# Altium schematic symbol library Atmel_By_element14_Batch_1-00.SCHLIB: 346 symbols (part 5 of 5)
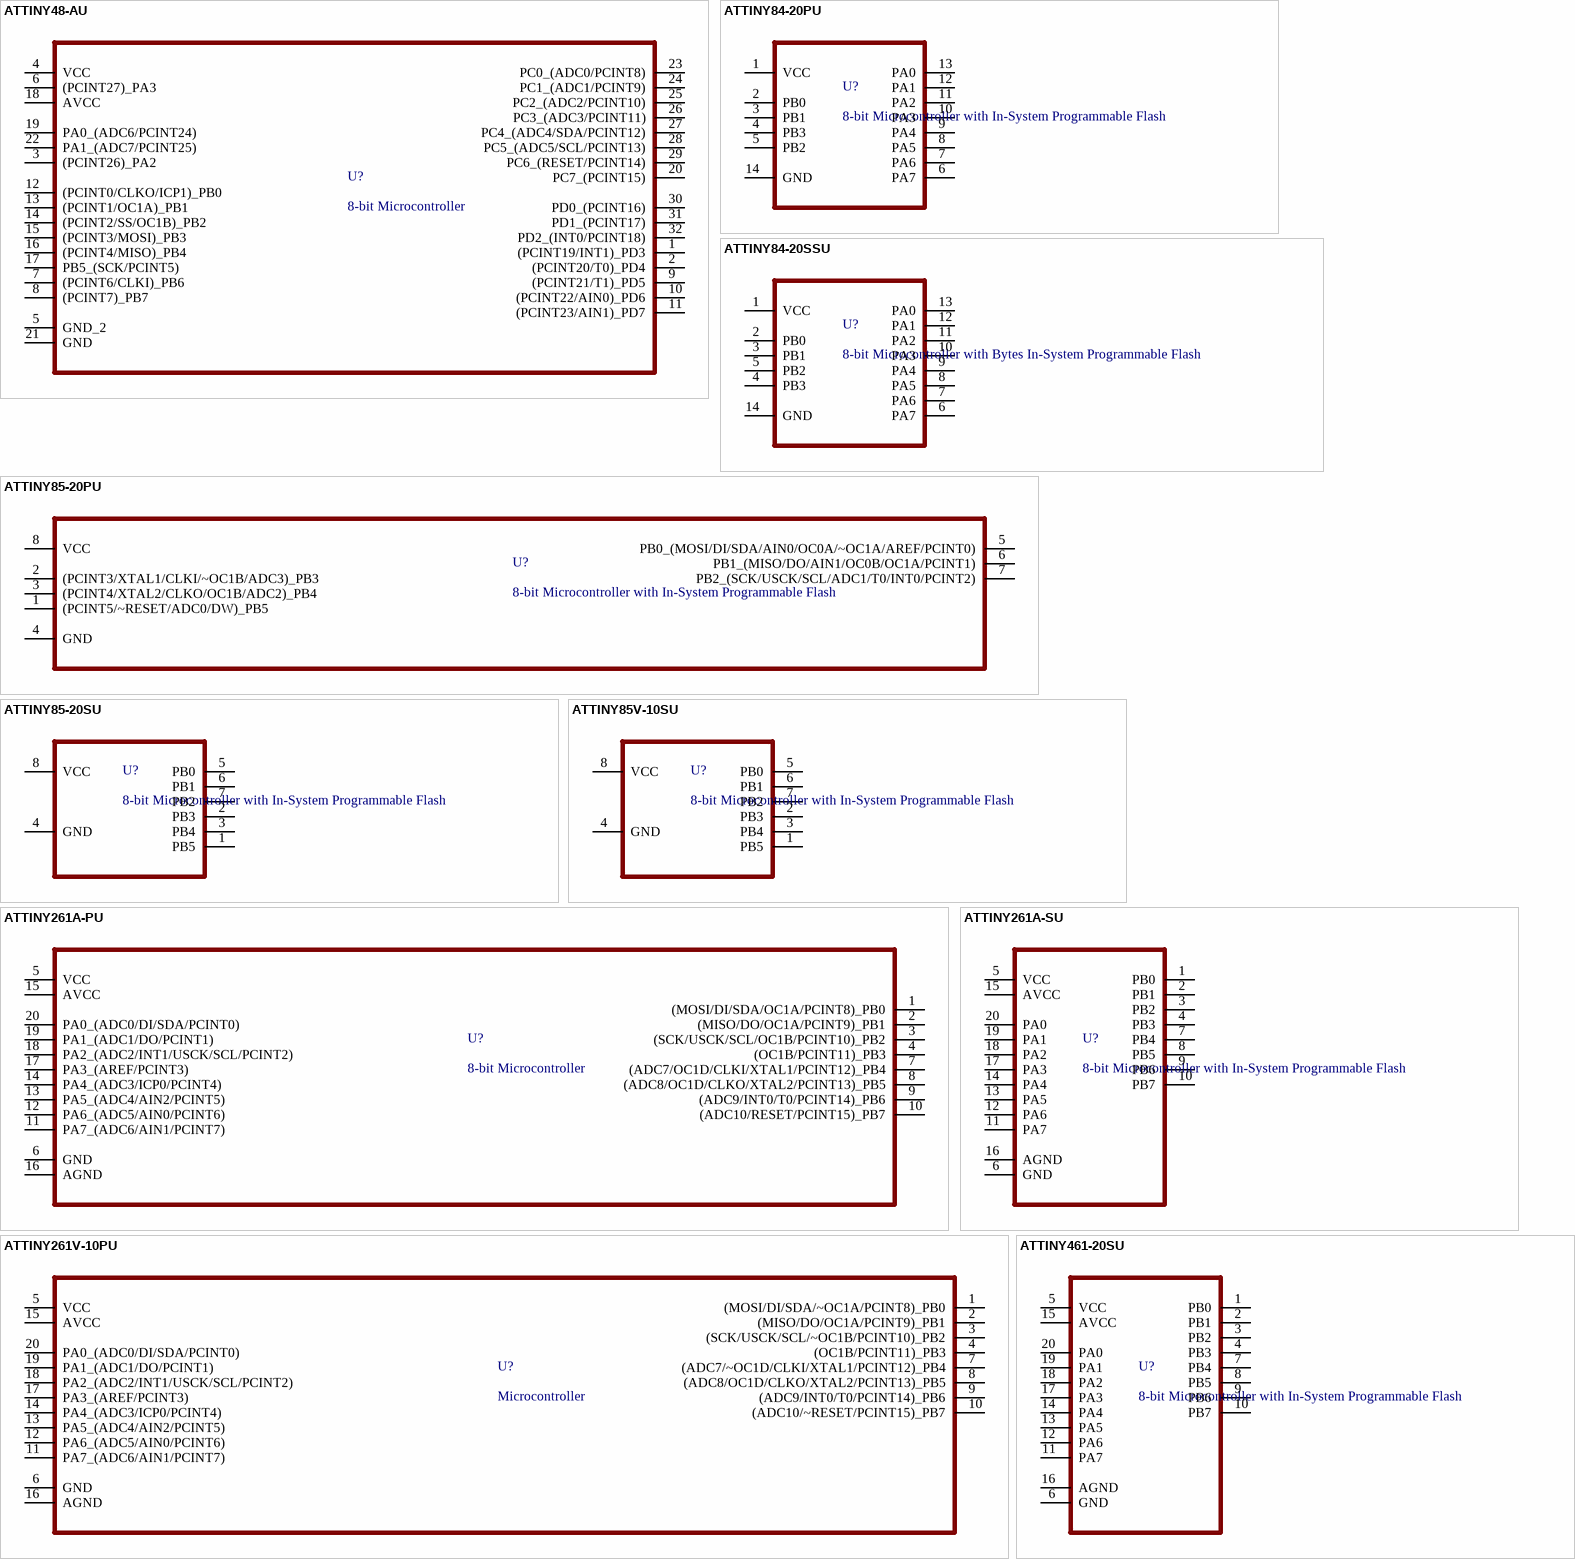
[diagram p50: symbols ATTINY48-AU to ATTINY461-20SU]

## ATTINY261A-SU
designator U?, comment 8-bit Microcontroller with In-System Programmable Flash
MPN: ATTINY261A-SU; OC_FARNELL: 1841619; OC_NEWARK: 12T1336; PACKAGE: SOIC-20; SUPPLIER: Atmel
footprint SOIC127P1032X265-20N
pins: 1 PB0, 2 PB1, 3 PB2, 4 PB3, 5 VCC (power), 6 GND, 7 PB4, 8 PB5, 9 PB6, 10 PB7, 11 PA7, 12 PA6, 13 PA5, 14 PA4, 15 AVCC (power), 16 AGND, 17 PA3, 18 PA2, 19 PA1, 20 PA0

## ATTINY261V-10PU
designator U?, comment Microcontroller
MPN: ATTINY261V-10PU; OC_FARNELL: 1455148; OC_NEWARK: 58M3784; PACKAGE: DIP-20; SUPPLIER: ATMEL
footprint DIP254P762X533-20
pins: 1 (MOSI/DI/SDA/~OC1A/PCINT8)_PB0, 2 (MISO/DO/OC1A/PCINT9)_PB1, 3 (SCK/USCK/SCL/~OC1B/PCINT10)_PB2, 4 (OC1B/PCINT11)_PB3, 5 VCC (power), 6 GND, 7 (ADC7/~OC1D/CLKI/XTAL1/PCINT12)_PB4, 8 (ADC8/OC1D/CLKO/XTAL2/PCINT13)_PB5, 9 (ADC9/INT0/T0/PCINT14)_PB6, 10 (ADC10/~RESET/PCINT15)_PB7, 11 PA7_(ADC6/AIN1/PCINT7), 12 PA6_(ADC5/AIN0/PCINT6), 13 PA5_(ADC4/AIN2/PCINT5), 14 PA4_(ADC3/ICP0/PCINT4), 15 AVCC (power), 16 AGND, 17 PA3_(AREF/PCINT3), 18 PA2_(ADC2/INT1/USCK/SCL/PCINT2), 19 PA1_(ADC1/DO/PCINT1), 20 PA0_(ADC0/DI/SDA/PCINT0)

## ATTINY461-20SU
designator U?, comment 8-bit Microcontroller with In-System Programmable Flash
MPN: ATTINY461-20SU; OC_FARNELL: 1455157; OC_NEWARK: 58M3791; PACKAGE: SOIC-20; SUPPLIER: Atmel
footprint SOIC127P1032X265-20N
pins: 1 PB0, 2 PB1, 3 PB2, 4 PB3, 5 VCC (power), 6 GND, 7 PB4, 8 PB5, 9 PB6, 10 PB7, 11 PA7, 12 PA6, 13 PA5, 14 PA4, 15 AVCC (power), 16 AGND, 17 PA3, 18 PA2, 19 PA1, 20 PA0

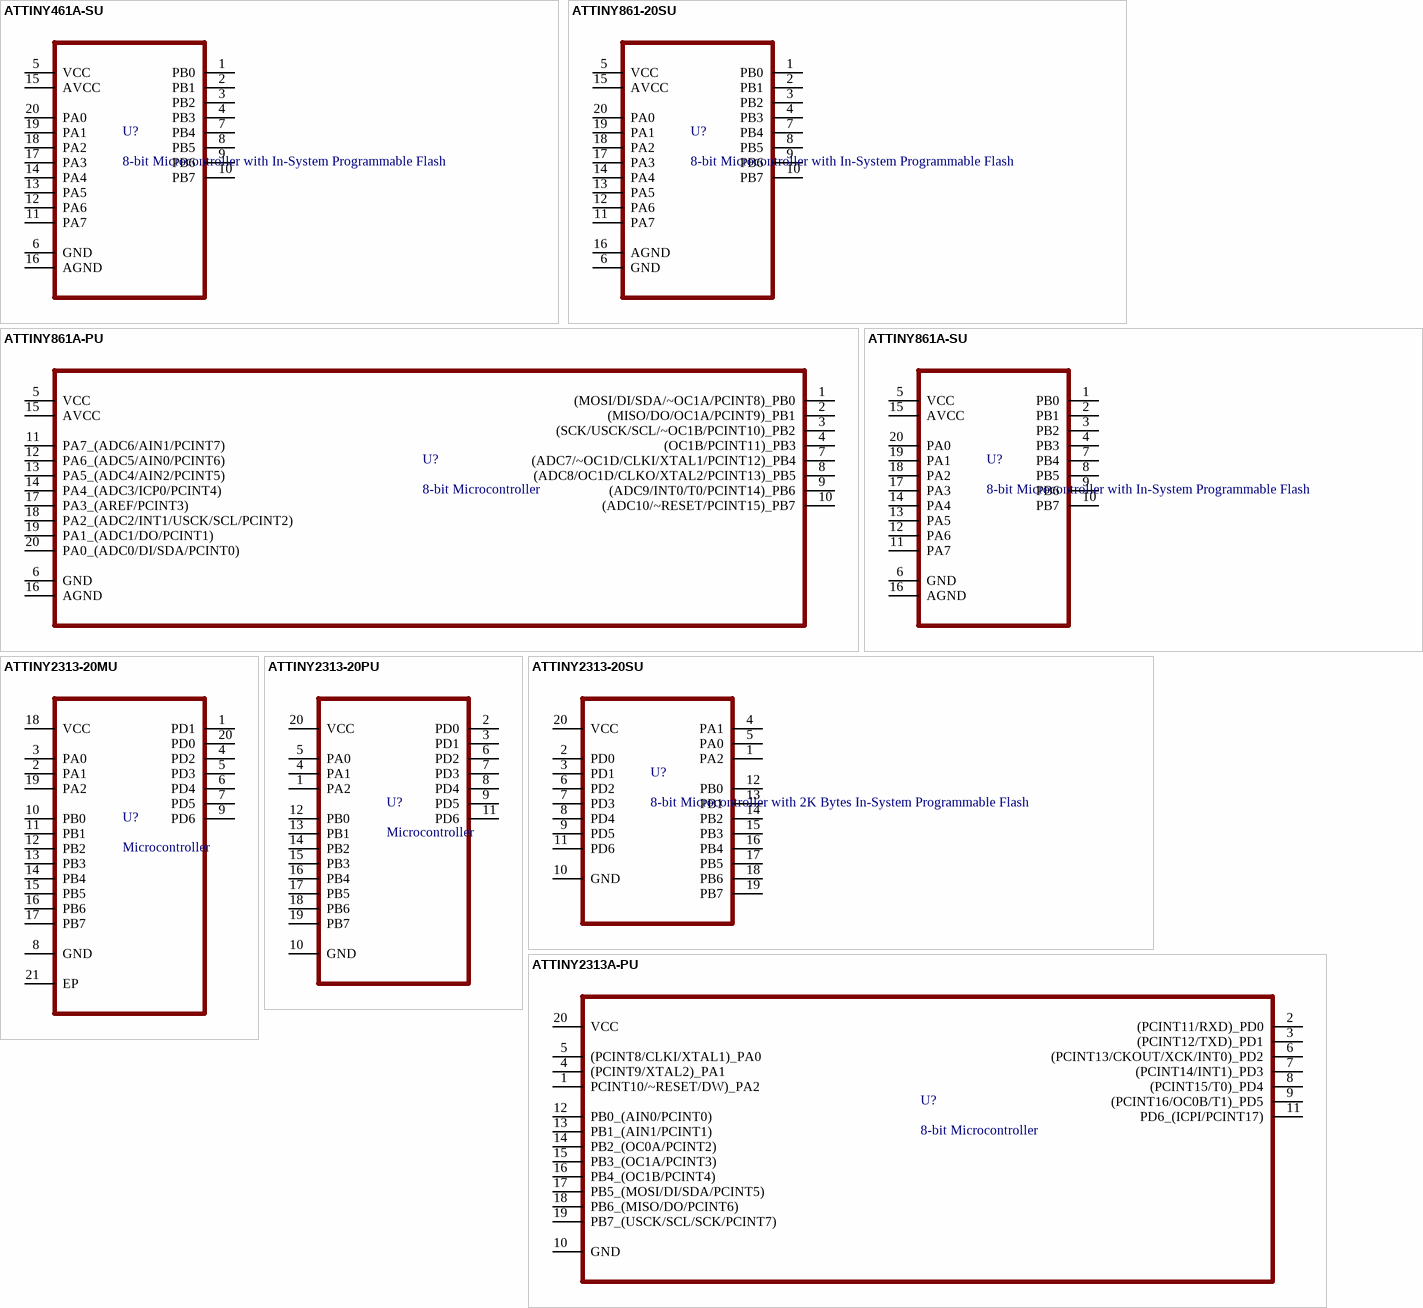
[diagram p44: symbols ATTINY461A-SU to ATTINY2313A-PU]

## ATTINY461A-SU
designator U?, comment 8-bit Microcontroller with In-System Programmable Flash
MPN: ATTINY461A-SU; OC_FARNELL: 1841624; OC_NEWARK: 12T1341; PACKAGE: SOIC-20; SUPPLIER: Atmel
footprint SOIC127P1032X265-20N
pins: 1 PB0, 2 PB1, 3 PB2, 4 PB3, 5 VCC (power), 6 GND, 7 PB4, 8 PB5, 9 PB6, 10 PB7, 11 PA7, 12 PA6, 13 PA5, 14 PA4, 15 AVCC (power), 16 AGND, 17 PA3, 18 PA2, 19 PA1, 20 PA0

## ATTINY861-20SU
designator U?, comment 8-bit Microcontroller with In-System Programmable Flash
MPN: ATTINY861-20SU; OC_FARNELL: 1455168; OC_NEWARK: 58M3801; PACKAGE: SOIC-20; SUPPLIER: Atmel
footprint SOIC127P1032X265-20N
pins: 1 PB0, 2 PB1, 3 PB2, 4 PB3, 5 VCC (power), 6 GND, 7 PB4, 8 PB5, 9 PB6, 10 PB7, 11 PA7, 12 PA6, 13 PA5, 14 PA4, 15 AVCC (power), 16 AGND, 17 PA3, 18 PA2, 19 PA1, 20 PA0

## ATTINY861A-PU
designator U?, comment 8-bit Microcontroller
MPN: ATTINY861A-PU; OC_FARNELL: 1841627; OC_NEWARK: 12T1343; PACKAGE: DIP-20; SUPPLIER: Atmel
footprint DIP254P762X533-20
pins: 1 (MOSI/DI/SDA/~OC1A/PCINT8)_PB0, 2 (MISO/DO/OC1A/PCINT9)_PB1, 3 (SCK/USCK/SCL/~OC1B/PCINT10)_PB2, 4 (OC1B/PCINT11)_PB3, 5 VCC (power), 6 GND, 7 (ADC7/~OC1D/CLKI/XTAL1/PCINT12)_PB4, 8 (ADC8/OC1D/CLKO/XTAL2/PCINT13)_PB5, 9 (ADC9/INT0/T0/PCINT14)_PB6, 10 (ADC10/~RESET/PCINT15)_PB7, 11 PA7_(ADC6/AIN1/PCINT7), 12 PA6_(ADC5/AIN0/PCINT6), 13 PA5_(ADC4/AIN2/PCINT5), 14 PA4_(ADC3/ICP0/PCINT4), 15 AVCC (power), 16 AGND, 17 PA3_(AREF/PCINT3), 18 PA2_(ADC2/INT1/USCK/SCL/PCINT2), 19 PA1_(ADC1/DO/PCINT1), 20 PA0_(ADC0/DI/SDA/PCINT0)

## ATTINY861A-SU
designator U?, comment 8-bit Microcontroller with In-System Programmable Flash
MPN: ATTINY861A-SU; OC_FARNELL: 1841628; OC_NEWARK: 12T1344; PACKAGE: SOIC-20; SUPPLIER: Atmel
footprint SOIC127P1032X265-20N
pins: 1 PB0, 2 PB1, 3 PB2, 4 PB3, 5 VCC (power), 6 GND, 7 PB4, 8 PB5, 9 PB6, 10 PB7, 11 PA7, 12 PA6, 13 PA5, 14 PA4, 15 AVCC (power), 16 AGND, 17 PA3, 18 PA2, 19 PA1, 20 PA0

## ATTINY2313-20MU
designator U?, comment Microcontroller
MPN: ATTINY2313-20MU; OC_FARNELL: 1748539; OC_NEWARK: 26R5646; PACKAGE: QFN-20; SUPPLIER: Atmel
footprint QFN50P400X400X80-21N
pins: 1 PD1, 2 PA1, 3 PA0, 4 PD2, 5 PD3, 6 PD4, 7 PD5, 8 GND, 9 PD6, 10 PB0, 11 PB1, 12 PB2, 13 PB3, 14 PB4, 15 PB5, 16 PB6, 17 PB7, 18 VCC (power), 19 PA2, 20 PD0, 21 EP

## ATTINY2313-20PU
designator U?, comment Microcontroller
MPN: ATTINY2313-20PU; OC_FARNELL: 9171592; OC_NEWARK: 96K6525; PACKAGE: DIP-20; SUPPLIER: ATMEL
footprint DIP254P762X533-20
pins: 1 PA2, 2 PD0, 3 PD1, 4 PA1, 5 PA0, 6 PD2, 7 PD3, 8 PD4, 9 PD5, 10 GND, 11 PD6, 12 PB0, 13 PB1, 14 PB2, 15 PB3, 16 PB4, 17 PB5, 18 PB6, 19 PB7, 20 VCC (power)

## ATTINY2313-20SU
designator U?, comment 8-bit Microcontroller with 2K Bytes In-System Programmable Flash
MPN: ATTINY2313-20SU; OC_FARNELL: 9171606; OC_NEWARK: 96K6526; PACKAGE: SOIC-20; SUPPLIER: Atmel
footprint SOIC127P1032X265-20N
pins: 1 PA2, 2 PD0, 3 PD1, 4 PA1, 5 PA0, 6 PD2, 7 PD3, 8 PD4, 9 PD5, 10 GND, 11 PD6, 12 PB0, 13 PB1, 14 PB2, 15 PB3, 16 PB4, 17 PB5, 18 PB6, 19 PB7, 20 VCC (power)

## ATTINY2313A-PU
designator U?, comment 8-bit Microcontroller
MPN: ATTINY2313A-PU; OC_FARNELL: 1841616; OC_NEWARK: 12T1333; PACKAGE: DIP-20; SUPPLIER: Atmel
footprint DIP254P762X533-20
pins: 1 PCINT10/~RESET/DW)_PA2, 2 (PCINT11/RXD)_PD0, 3 (PCINT12/TXD)_PD1, 4 (PCINT9/XTAL2)_PA1, 5 (PCINT8/CLKI/XTAL1)_PA0, 6 (PCINT13/CKOUT/XCK/INT0)_PD2, 7 (PCINT14/INT1)_PD3, 8 (PCINT15/T0)_PD4, 9 (PCINT16/OC0B/T1)_PD5, 10 GND, 11 PD6_(ICPI/PCINT17), 12 PB0_(AIN0/PCINT0), 13 PB1_(AIN1/PCINT1), 14 PB2_(OC0A/PCINT2), 15 PB3_(OC1A/PCINT3), 16 PB4_(OC1B/PCINT4), 17 PB5_(MOSI/DI/SDA/PCINT5), 18 PB6_(MISO/DO/PCINT6), 19 PB7_(USCK/SCL/SCK/PCINT7), 20 VCC (power)

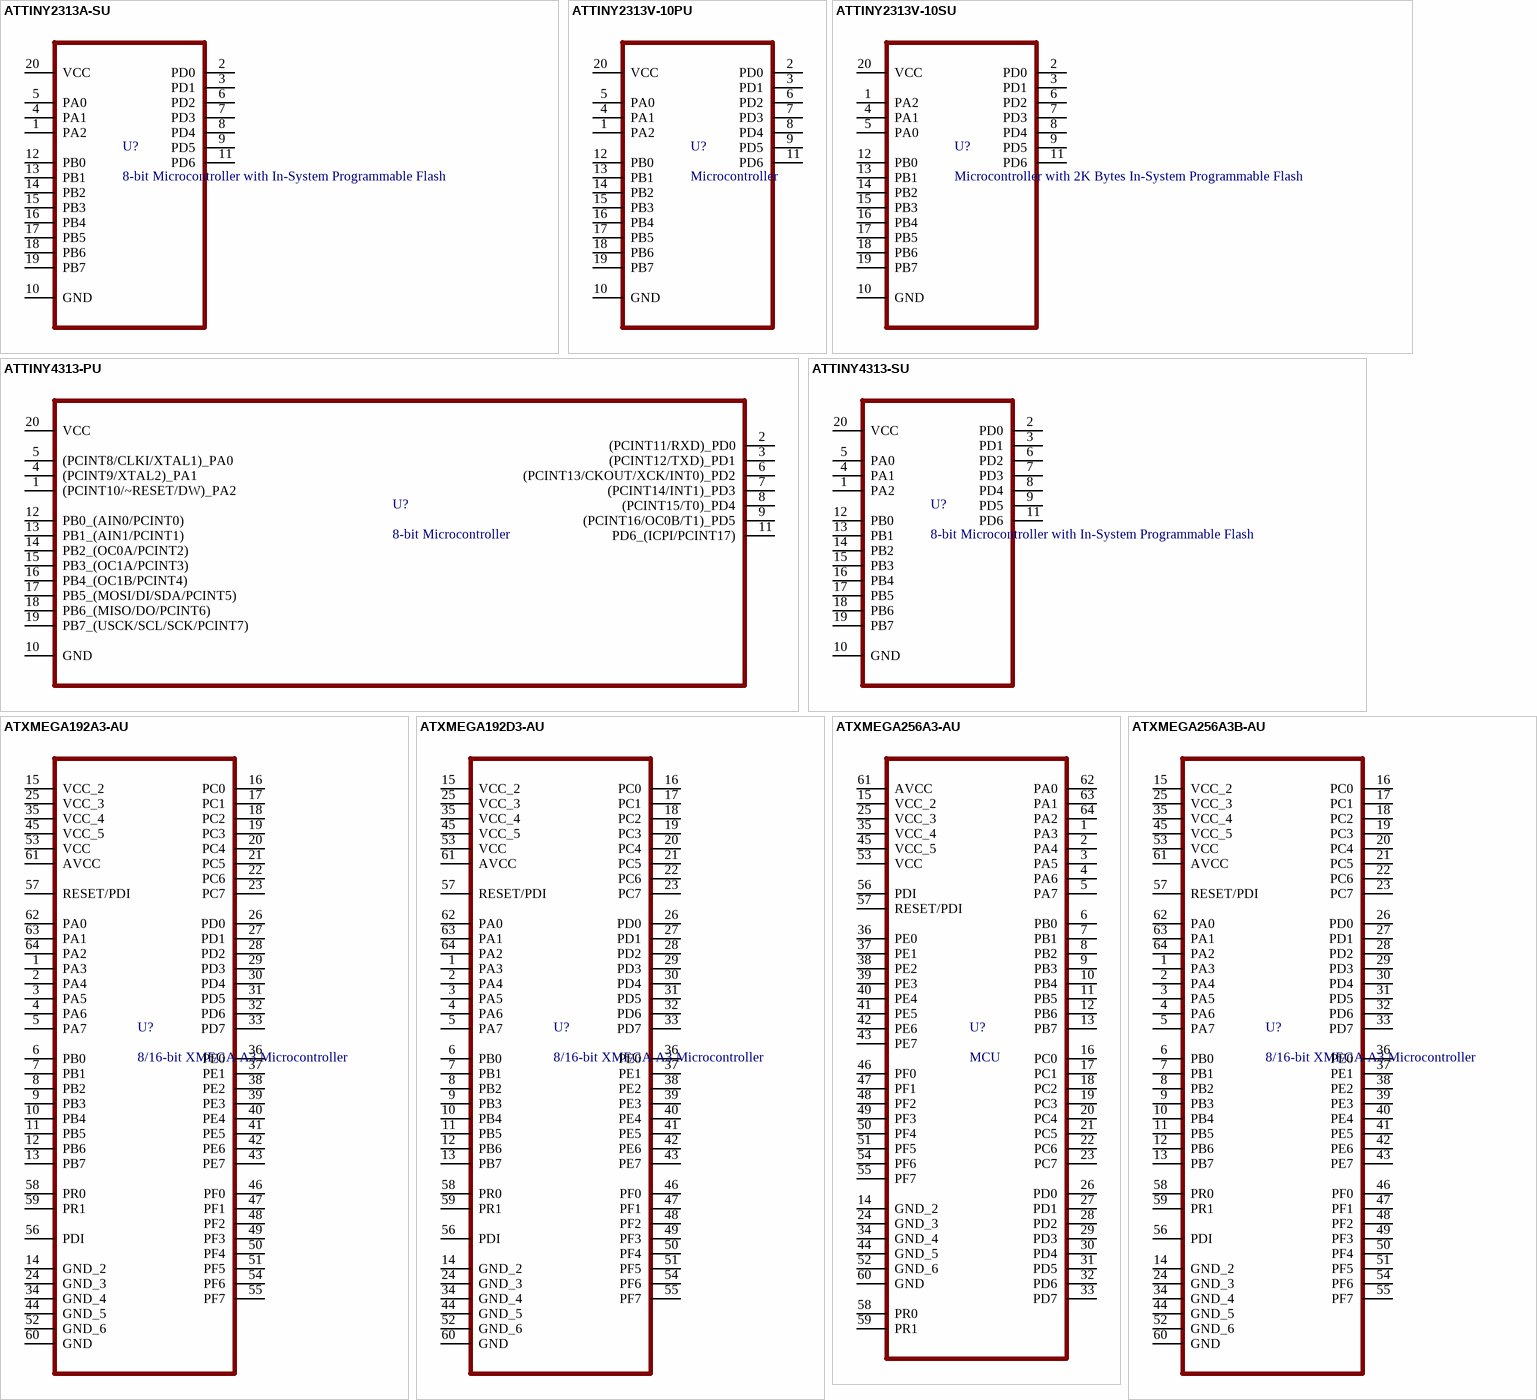
[diagram p45: symbols ATTINY2313A-SU to ATXMEGA256A3B-AU]

## ATTINY2313A-SU
designator U?, comment 8-bit Microcontroller with In-System Programmable Flash
MPN: ATTINY2313A-SU; OC_FARNELL: 1841617; OC_NEWARK: 12T1334; PACKAGE: SOIC-20; SUPPLIER: Atmel
footprint SOIC127P1032X265-20N
pins: 1 PA2, 2 PD0, 3 PD1, 4 PA1, 5 PA0, 6 PD2, 7 PD3, 8 PD4, 9 PD5, 10 GND, 11 PD6, 12 PB0, 13 PB1, 14 PB2, 15 PB3, 16 PB4, 17 PB5, 18 PB6, 19 PB7, 20 VCC (power)

## ATTINY2313V-10PU
designator U?, comment Microcontroller
MPN: ATTINY2313V-10PU; OC_FARNELL: 9171614; OC_NEWARK: 01M6916; PACKAGE: DIP-20; SUPPLIER: ATMEL
footprint DIP254P762X533-20
pins: 1 PA2, 2 PD0, 3 PD1, 4 PA1, 5 PA0, 6 PD2, 7 PD3, 8 PD4, 9 PD5, 10 GND, 11 PD6, 12 PB0, 13 PB1, 14 PB2, 15 PB3, 16 PB4, 17 PB5, 18 PB6, 19 PB7, 20 VCC (power)

## ATTINY2313V-10SU
designator U?, comment Microcontroller with 2K Bytes In-System Programmable Flash
MPN: ATTINY2313V-10SU; OC_FARNELL: 9171622; OC_NEWARK: 01M6917; PACKAGE: SOIC-16; SUPPLIER: Atmel
footprint SOIC127P1032X265-20N
pins: 1 PA2, 2 PD0, 3 PD1, 4 PA1, 5 PA0, 6 PD2, 7 PD3, 8 PD4, 9 PD5, 10 GND, 11 PD6, 12 PB0, 13 PB1, 14 PB2, 15 PB3, 16 PB4, 17 PB5, 18 PB6, 19 PB7, 20 VCC (power)

## ATTINY4313-PU
designator U?, comment 8-bit Microcontroller
MPN: ATTINY4313-PU; OC_FARNELL: 1841620; OC_NEWARK: 12T1339; PACKAGE: DIP-20; SUPPLIER: Atmel
footprint DIP254P762X533-20
pins: 1 (PCINT10/~RESET/DW)_PA2, 2 (PCINT11/RXD)_PD0, 3 (PCINT12/TXD)_PD1, 4 (PCINT9/XTAL2)_PA1, 5 (PCINT8/CLKI/XTAL1)_PA0, 6 (PCINT13/CKOUT/XCK/INT0)_PD2, 7 (PCINT14/INT1)_PD3, 8 (PCINT15/T0)_PD4, 9 (PCINT16/OC0B/T1)_PD5, 10 GND, 11 PD6_(ICPI/PCINT17), 12 PB0_(AIN0/PCINT0), 13 PB1_(AIN1/PCINT1), 14 PB2_(OC0A/PCINT2), 15 PB3_(OC1A/PCINT3) (power), 16 PB4_(OC1B/PCINT4), 17 PB5_(MOSI/DI/SDA/PCINT5), 18 PB6_(MISO/DO/PCINT6), 19 PB7_(USCK/SCL/SCK/PCINT7), 20 VCC (power)

## ATTINY4313-SU
designator U?, comment 8-bit Microcontroller with In-System Programmable Flash
MPN: ATTINY4313-SU; OC_FARNELL: 1841621; OC_NEWARK: 12T1340; PACKAGE: SOIC-20; SUPPLIER: Atmel
footprint SOIC127P1032X265-20N
pins: 1 PA2, 2 PD0, 3 PD1, 4 PA1, 5 PA0, 6 PD2, 7 PD3, 8 PD4, 9 PD5, 10 GND, 11 PD6, 12 PB0, 13 PB1, 14 PB2, 15 PB3, 16 PB4, 17 PB5, 18 PB6, 19 PB7, 20 VCC (power)

## ATXMEGA192A3-AU
designator U?, comment 8/16-bit XMEGA A3 Microcontroller
MPN: ATXMEGA192A3-AU; OC_FARNELL: 1841630; OC_NEWARK: -; PACKAGE: TQFP-64; SUPPLIER: Atmel Corporation
footprint QFP80P1600X1600X120-64N
pins: 1 PA3, 2 PA4, 3 PA5, 4 PA6, 5 PA7, 6 PB0, 7 PB1, 8 PB2, 9 PB3, 10 PB4, 11 PB5, 12 PB6, 13 PB7, 14 GND_2, 15 VCC_2 (power), 16 PC0, 17 PC1, 18 PC2, 19 PC3, 20 PC4, 21 PC5, 22 PC6, 23 PC7, 24 GND_3, 25 VCC_3 (power), 26 PD0, 27 PD1, 28 PD2, 29 PD3, 30 PD4, 31 PD5, 32 PD6, 33 PD7, 34 GND_4, 35 VCC_4 (power), 36 PE0, 37 PE1, 38 PE2, 39 PE3, 40 PE4, 41 PE5, 42 PE6, 43 PE7, 44 GND_5, 45 VCC_5 (power), 46 PF0, 47 PF1, 48 PF2, 49 PF3, 50 PF4, 51 PF5, 52 GND_6, 53 VCC (power), 54 PF6, 55 PF7, 56 PDI, 57 RESET/PDI, 58 PR0, 59 PR1, 60 GND, 61 AVCC (power), 62 PA0, 63 PA1, 64 PA2

## ATXMEGA192D3-AU
designator U?, comment 8/16-bit XMEGA A3 Microcontroller
MPN: ATXMEGA192D3-AU; OC_FARNELL: 1841631; OC_NEWARK: -; PACKAGE: TQFP-64; SUPPLIER: Atmel Corporation
footprint QFP80P1600X1600X120-64N
pins: 1 PA3, 2 PA4, 3 PA5, 4 PA6, 5 PA7, 6 PB0, 7 PB1, 8 PB2, 9 PB3, 10 PB4, 11 PB5, 12 PB6, 13 PB7, 14 GND_2, 15 VCC_2 (power), 16 PC0, 17 PC1, 18 PC2, 19 PC3, 20 PC4, 21 PC5, 22 PC6, 23 PC7, 24 GND_3, 25 VCC_3 (power), 26 PD0, 27 PD1, 28 PD2, 29 PD3, 30 PD4, 31 PD5, 32 PD6, 33 PD7, 34 GND_4, 35 VCC_4 (power), 36 PE0, 37 PE1, 38 PE2, 39 PE3, 40 PE4, 41 PE5, 42 PE6, 43 PE7, 44 GND_5, 45 VCC_5 (power), 46 PF0, 47 PF1, 48 PF2, 49 PF3, 50 PF4, 51 PF5, 52 GND_6, 53 VCC (power), 54 PF6, 55 PF7, 56 PDI, 57 RESET/PDI, 58 PR0, 59 PR1, 60 GND, 61 AVCC (power), 62 PA0, 63 PA1, 64 PA2

## ATXMEGA256A3-AU
designator U?, comment MCU
MPN: ATXMEGA256A3-AU; OC_FARNELL: 1748554; OC_NEWARK: -; PACKAGE: QFP-64; SUPPLIER: Atmel
footprint QFP80P1600X1600X120-64N
pins: 1 PA3, 2 PA4, 3 PA5, 4 PA6, 5 PA7, 6 PB0, 7 PB1, 8 PB2, 9 PB3, 10 PB4, 11 PB5, 12 PB6, 13 PB7, 14 GND_2, 15 VCC_2 (power), 16 PC0, 17 PC1, 18 PC2, 19 PC3, 20 PC4, 21 PC5, 22 PC6, 23 PC7, 24 GND_3, 25 VCC_3 (power), 26 PD0, 27 PD1, 28 PD2, 29 PD3, 30 PD4, 31 PD5, 32 PD6, 33 PD7, 34 GND_4, 35 VCC_4 (power), 36 PE0, 37 PE1, 38 PE2, 39 PE3, 40 PE4, 41 PE5, 42 PE6, 43 PE7, 44 GND_5, 45 VCC_5 (power), 46 PF0, 47 PF1, 48 PF2, 49 PF3, 50 PF4, 51 PF5, 52 GND_6, 53 VCC (power), 54 PF6, 55 PF7, 56 PDI, 57 RESET/PDI, 58 PR0, 59 PR1, 60 GND, 61 AVCC (power), 62 PA0, 63 PA1, 64 PA2

## ATXMEGA256A3B-AU
designator U?, comment 8/16-bit XMEGA A3 Microcontroller
MPN: ATXMEGA256A3B-AU; OC_FARNELL: 1841632; OC_NEWARK: -; PACKAGE: TQFP-64; SUPPLIER: Atmel Corporation
footprint QFP80P1600X1600X120-64N
pins: 1 PA3, 2 PA4, 3 PA5, 4 PA6, 5 PA7, 6 PB0, 7 PB1, 8 PB2, 9 PB3, 10 PB4, 11 PB5, 12 PB6, 13 PB7, 14 GND_2, 15 VCC_2 (power), 16 PC0, 17 PC1, 18 PC2, 19 PC3, 20 PC4, 21 PC5, 22 PC6, 23 PC7, 24 GND_3, 25 VCC_3 (power), 26 PD0, 27 PD1, 28 PD2, 29 PD3, 30 PD4, 31 PD5, 32 PD6, 33 PD7, 34 GND_4, 35 VCC_4 (power), 36 PE0, 37 PE1, 38 PE2, 39 PE3, 40 PE4, 41 PE5, 42 PE6, 43 PE7, 44 GND_5, 45 VCC_5 (power), 46 PF0, 47 PF1, 48 PF2, 49 PF3, 50 PF4, 51 PF5, 52 GND_6, 53 VCC (power), 54 PF6, 55 PF7, 56 PDI, 57 RESET/PDI, 58 PR0, 59 PR1, 60 GND, 61 AVCC (power), 62 PA0, 63 PA1, 64 PA2

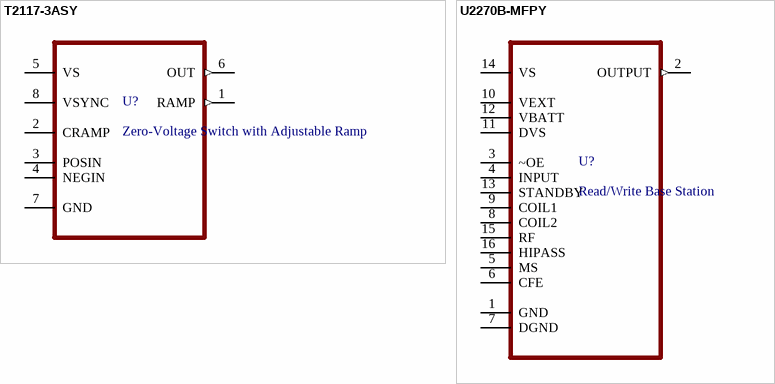
[diagram p46: symbols T2117-3ASY to U2270B-MFPY]

## T2117-3ASY
designator U?, comment Zero-Voltage Switch with Adjustable Ramp
MPN: T2117-3ASY; OC_FARNELL: 1455171; OC_NEWARK: 59M3051; PACKAGE: PDIP-8; SUPPLIER: Atmel
footprint DIP254P762X457-8
pins: 1 RAMP (out), 2 CRAMP, 3 POSIN, 4 NEGIN, 5 VS (power), 6 OUT (out), 7 GND, 8 VSYNC

## U2270B-MFPY
designator U?, comment Read/Write Base Station
MPN: U2270B-MFPY; OC_FARNELL: 1095806; OC_NEWARK: 93K1097; PACKAGE: SOIC-16; SUPPLIER: ATMEL
footprint SOIC127P600X140-16N
pins: 1 GND, 2 OUTPUT (out), 3 ~OE, 4 INPUT, 5 MS, 6 CFE, 7 DGND, 8 COIL2, 9 COIL1, 10 VEXT (power), 11 DVS (power), 12 VBATT (power), 13 STANDBY, 14 VS (power), 15 RF, 16 HIPASS